# Altium schematic symbol library RXXXX.SchLib: 41 symbols
Pins are listed as number, name and electrical type; pins without a type are passive.

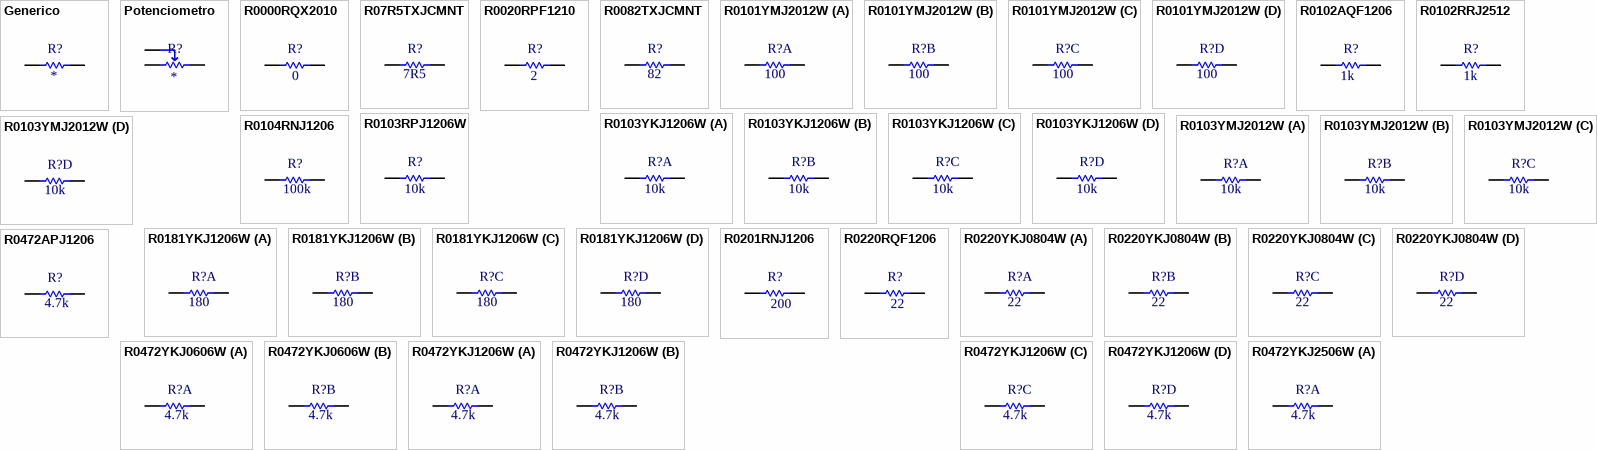
[diagram p0: symbols Generico to R0472YKJ2506W]

## Generico
designator R?
Frequency: NC; Manufacturer Part Number: *; Working Temperature: *; Temperature Coefficient: *; Mounting: *; Short Description: *; Power: *; Ratings: *; Type: NC; Alternate Part Number 1: *; Alternate Part Number 2: *; Manufacturer: *; Tolerance: *; Current: NC; Revision Date: 02/08/21; Package Reference: *; Voltage: *; Value: *
pins: 1, 2

## Potenciometro
designator R?
Frequency: NC; Manufacturer Part Number: *; Working Temperature: *; Temperature Coefficient: *; Mounting: *; Short Description: *; Power: *; Ratings: *; Type: NC; Alternate Part Number 1: *; Alternate Part Number 2: *; Manufacturer: *; Tolerance: *; Current: NC; Revision Date: 02/08/21; Package Reference: *; Voltage: *; Value: *
pins: 1, 2, 3

## R0000RQX2010
designator R?  value 0
0 Ohms Jumper 0.75W, 3/4W Chip Resistor 2010 (5025 Metric) Automotive AEC-Q200 Thick Film; Manufacturer Part Number: RMCF2010ZT0R00; Manufacturer: Stackpole Electronics Inc; Working Temperature: -55°C ~ 155°C; Short Description: RES 0 OHM JUMPER 3/4W 2010; Ratings: REACH, ROHS3, AEC-Q200; Frequency: NC; Temperature Coefficient: *; Mounting: SMT; Power: 3/4W; Type: NC; Alternate Part Number 1: *; Alternate Part Number 2: *; Tolerance: *; Current: NC; Revision Date: 02/08/21; Package Reference: 2010; Voltage: *
footprint R2010 (Footprint not found)
pins: 1, 2

## R07R5TXJCMNT
designator R?  value 7R5
7R5 Ohms 25W Metal Clad Chassis Mount Resistor HS25 type.; Manufacturer Part Number: UAL25-7R5F8; Manufacturer: TE Connectivity Passive Product; Working Temperature: -55°C ~ 200°C; Short Description: RES CHAS MNT 7.5 OHM 1% 25W; Frequency: NC; Temperature Coefficient: *; Mounting: Chassis Mount; Power: 25W; Ratings: -; Type: HS25 Metal Clad; Alternate Part Number 1: *; Alternate Part Number 2: *; Tolerance: *; Current: NC; Revision Date: 24/07/23; Package Reference: HS25 Metal Clad; Voltage: *
footprint HS25 (HS10)
pins: 1, 2

## R0020RPF1210
designator R?  value 2
2 Ohms ±1% 0.5W, 1/2W Chip Resistor 1210 (3225 Metric) Automotive AEC-Q200 Thick Film; Manufacturer Part Number: RMCF1210FT2R00; Manufacturer: Stackpole Electronics Inc; Working Temperature: -55°C ~ 155°C; Short Description: RES 2 OHM 1% 1/2W 1210; Frequency: NC; Temperature Coefficient: *; Mounting: SMD; Power: 0.5W; Ratings: AEC-Q200; Type: NC; Alternate Part Number 1: *; Alternate Part Number 2: *; Tolerance: ±1%; Current: NC; Revision Date: 02/08/21; Package Reference: 1210; Voltage: *
footprint R1210
pins: 1, 2

## R0082TXJCMNT
designator R?  value 82
82 Ohms 10W Metal Clad Chassis Mount Resistor HS10 type.; Manufacturer Part Number: THS1082RJ; Manufacturer: TE Connectivity Passive Product; Working Temperature: -55°C ~ 200°C; Short Description: RES CHAS MNT 82 OHM 5% 10W; Frequency: NC; Temperature Coefficient: *; Mounting: Chassis Mount; Power: 10W; Ratings: -; Type: HS10 Metal Clad; Alternate Part Number 1: *; Alternate Part Number 2: *; Tolerance: *; Current: NC; Revision Date: 03/05/22; Package Reference: HS10 Metal Clad; Voltage: *
footprint HS10
pins: 1, 2

## R0101YMJ2012W
designator R?  value 100
100 Ohm ±5% 125mW Power Per Element Isolated 4 Resistor Network/Array ±200ppm/°C 2012, Concave, Long Side Terminals; Manufacturer Part Number: 744C083101JP; Manufacturer: CTS Resistor Products; Working Temperature: -55°C ~ 125°C; Short Description: RES ARRAY 4 RES 100 OHM 2012; Power: 1/8W; Ratings: REACH, ROHS3; Frequency: NC; Temperature Coefficient: ±200ppm/°C; Mounting: SMT; Type: NC; Alternate Part Number 1: *; Alternate Part Number 2: *; Tolerance: ±5%; Current: NC; Revision Date: 02/08/21; Package Reference: Array; Voltage: *
footprint R2012A (Footprint not found)
part A pins: 1, 8
part B pins: 2, 7
part C pins: 3, 6
part D pins: 4, 5

## R0102AQF1206
designator R?  value 1k  (hidden comment: R0102AQF1206)
1 kOhms ±1% 0.75W, 3/4W Chip Resistor 1206 (3216 Metric) Automotive AEC-Q200, Pulse Withstanding Thick Film; Manufacturer Part Number: CRCW12061K00FKEAHP; Manufacturer: Vishay Dale; Working Temperature: -55°C ~ 155°C; Temperature Coefficient: ±100ppm/°C; Short Description: RES SMD 1K OHM 1% 3/4W 1206; Ratings: REACH, ROHS3; Frequency: NC; Tolerance: ±5%; Mounting: SMT; Power: 3/4W; Type: NC; Alternate Part Number 1: *; Alternate Part Number 2: *; Current: NC; Revision Date: 02/08/21; Package Reference: 1206; Voltage: *
footprint R1206 (Footprint not found)
pins: 1, 2

## R0102RRJ2512
designator R?  value 1k
1 kOhms ±5% 1W Chip Resistor 2512 (6432 Metric) Automotive AEC-Q200 Thick Film; Manufacturer Part Number: MCR100JZHJ102; Manufacturer: Rohm Semiconductor; Working Temperature: -55°C ~ 125°C; Temperature Coefficient: ±200ppm/°C; Short Description: RES SMD 1K OHM 5% 1W 2512; Ratings: REACH, ROHS3, AEC-Q200; Frequency: NC; Mounting: SMT; Power: 1W; Type: NC; Alternate Part Number 1: *; Alternate Part Number 2: *; Tolerance: ±5%; Current: NC; Revision Date: 02/08/21; Package Reference: 2512; Voltage: *
footprint R2512 (Footprint not found)
pins: 1, 2

## R0103RPJ1206W
designator R?  value 10k
10 kOhms ±5% 0.5W, 1/2W Chip Resistor 1206 (3216 Metric) High Voltage, Pulse Withstanding Thick Film; Manufacturer Part Number: CRS1206-JX-103ELF; Manufacturer: Bourns Inc.; Working Temperature: -55°C ~ 155°C; Temperature Coefficient: ±100ppm/°C; Short Description: RES SMD 10K OHM 5% 1/2W 1206; Ratings: REACH, ROHS3; Frequency: NC; Mounting: SMT; Power: 1/2W; Type: NC; Alternate Part Number 1: *; Alternate Part Number 2: *; Tolerance: ±5%; Current: NC; Revision Date: 02/08/21; Package Reference: 1206; Voltage: *
footprint R1206 (Footprint not found)
pins: 1, 2

## R0103YKJ1206W
designator R?  value 10k
10k Ohm ±5% 62.5mW Power Per Element Isolated 4 Resistor Network/Array ±200ppm/°C 1206 (3216 Metric), Convex, Long Side Terminals; Manufacturer Part Number: YC164-JR-0710KL; Manufacturer: Yageo; Working Temperature: -55°C ~ 155°C; Short Description: RES ARRAY 4 RES 10K OHM 1206; Power: 1/16W; Ratings: REACH, ROHS3; Frequency: NC; Temperature Coefficient: ±200ppm/°C; Mounting: SMT; Type: NC; Alternate Part Number 1: *; Alternate Part Number 2: *; Tolerance: ±5%; Current: NC; Revision Date: 02/08/21; Package Reference: Array; Voltage: *
footprint R1206A
part A pins: 1, 8
part B pins: 2, 7
part C pins: 3, 6
part D pins: 4, 5

## R0103YMJ2012W
designator R?  value 10k
10k Ohm ±5% 125mW Power Per Element Isolated 4 Resistor Network/Array ±200ppm/°C 2012, Concave, Long Side Terminals; Manufacturer Part Number: 744C083103JP; Manufacturer: CTS Resistor Products; Working Temperature: -55°C ~ 125°C; Short Description: RES ARRAY 4 RES 10K OHM 2012; Power: 1/8W; Ratings: REACH, ROHS3; Frequency: NC; Temperature Coefficient: ±200ppm/°C; Mounting: SMT; Type: NC; Alternate Part Number 1: *; Alternate Part Number 2: *; Tolerance: ±5%; Current: NC; Revision Date: 02/08/21; Package Reference: Array; Voltage: *
footprint R2012A (Footprint not found)
part A pins: 1, 8
part B pins: 2, 7
part C pins: 3, 6
part D pins: 4, 5

## R0104RNJ1206
designator R?  value 100k
100 kOhms ±5% 0.25W, 1/4W Chip Resistor 1206 (3216 Metric) Automotive AEC-Q200 Thick Film; Manufacturer Part Number: ERJ-8GEYJ104V; Manufacturer: Panasonic Electronic Components; Working Temperature: -55°C ~ 155°C; Temperature Coefficient: ±200ppm/°C; Short Description: RES SMD 100K OHM 5% 1/4W 1206; Ratings: REACH, ROHS3, AEC-Q200; Frequency: NC; Mounting: SMT; Power: 1/4W; Type: NC; Alternate Part Number 1: *; Alternate Part Number 2: *; Tolerance: ±5%; Current: NC; Revision Date: 02/08/21; Package Reference: 1206; Voltage: *
footprint R1206 (Footprint not found)
pins: 1, 2

## R0181YKJ1206W
designator R?  value 180
180 Ohm ±5% 62.5mW Power Per Element Isolated 4 Resistor Network/Array ±200ppm/°C 1206 (3216 Metric), Concave, Long Side Terminals; Manufacturer Part Number: 742C083181JP; Manufacturer: CTS Resistor Products; Working Temperature: -55°C ~ 125°C; Short Description: RES ARRAY 4 RES 180 OHM 1206; Power: 1/16W; Ratings: REACH, ROHS3; Frequency: NC; Temperature Coefficient: ±200ppm/°C; Mounting: SMT; Type: NC; Alternate Part Number 1: *; Alternate Part Number 2: *; Tolerance: ±5%; Current: NC; Revision Date: 02/08/21; Package Reference: Array; Voltage: *
footprint R1206A
part A pins: 1, 8
part B pins: 2, 7
part C pins: 3, 6
part D pins: 4, 5

## R0201RNJ1206
designator R?  value 200
200 Ohms ±5% 0.25W, 1/4W Chip Resistor 1206 (3216 Metric) Moisture Resistant Thick Film; Manufacturer Part Number: RC1206JR-07200RL; Manufacturer: YAGEO; Working Temperature: -55°C ~ 155°C; Temperature Coefficient: ±100ppm/°C; Short Description: RES 200 OHM 5% 1/4W 1206; Ratings: ROHS3; Frequency: NC; Mounting: SMD; Power: 0.25W,1/4W; Type: NC; Alternate Part Number 1: *; Alternate Part Number 2: *; Tolerance: 5%; Current: NC; Revision Date: 06/01/22; Package Reference: 1206; Voltage: *
footprint R1206
pins: 1, 2

## R0220RQF1206
designator R?  value 22
22 Ohms ±1% 0.75W, 3/4W Chip Resistor 1206 (3216 Metric) Automotive AEC-Q200, Pulse Withstanding Thick Film; Manufacturer Part Number: CRCW120622R0FKEAHP; Manufacturer: Vishay Dale; Working Temperature: -55°C ~ 155°C; Temperature Coefficient: ±100ppm/°C; Short Description: RES SMD 22 OHM 1% 3/4W 1206; Ratings: REACH, ROHS3, AEC-Q200; Frequency: NC; Mounting: SMT; Power: 3/4W; Type: NC; Alternate Part Number 1: *; Alternate Part Number 2: *; Tolerance: ±1%; Current: NC; Revision Date: 24/11/21; Package Reference: 1206; Voltage: NC
footprint R1206
pins: 1, 2

## R0220YKJ0804W
designator R?  value 22
22 Ohm ±5% 62.5mW Power Per Element Isolated 4 Resistor Network/Array ±200ppm/°C 0804, Convex, Long Side Terminals; Manufacturer Part Number: YC124-JR-0722RL; Manufacturer: Yageo; Working Temperature: -55°C ~ 155°C; Short Description: RES ARRAY 4 RES 22 OHM 0804; Power: 1/16W; Ratings: REACH, ROHS3; Frequency: NC; Temperature Coefficient: ±200ppm/°C; Mounting: SMT; Type: NC; Alternate Part Number 1: *; Alternate Part Number 2: *; Tolerance: ±5%; Current: NC; Revision Date: 02/08/21; Package Reference: Array; Voltage: *
footprint R0804A (Footprint not found)
part A pins: 1, 8
part B pins: 2, 7
part C pins: 3, 6
part D pins: 4, 5

## R0472APJ1206
designator R?  value 4.7k
4.7 kOhms ±5% 0.667W, 2/3W Chip Resistor 1206 (3216 Metric) Automotive AEC-Q200, Pulse Withstanding Thick Film; Manufacturer Part Number: ERJ-P08J472V; Manufacturer: Panasonic Electronic Components; Working Temperature: -55°C ~ 155°C; Temperature Coefficient: ±200ppm/°C; Short Description: RES SMD 4.7K OHM 5% 2/3W 1206; Ratings: REACH, ROHS3, AEC-Q200; Frequency: NC; Mounting: SMT; Power: 2/3W; Type: NC; Alternate Part Number 1: *; Alternate Part Number 2: *; Tolerance: ±5%; Current: NC; Revision Date: 02/08/21; Package Reference: 1206; Voltage: *
footprint R1206 (Footprint not found)
pins: 1, 2

## R0472YKJ0606W
designator R?  value 4.7k
4.7k Ohm ±5% 62.5mW Power Per Element Isolated 2 Resistor Network/Array ±200ppm/°C 0606, Concave; Manufacturer Part Number: 742C043472JP; Manufacturer: CTS Resistor Products; Working Temperature: -55°C ~ 125°C; Short Description: RES ARRAY 2 RES 4.7K OHM 0606; Power: 1/16W; Ratings: REACH, ROHS3; Frequency: NC; Temperature Coefficient: ±200ppm/°C; Mounting: SMT; Type: NC; Alternate Part Number 1: *; Alternate Part Number 2: *; Tolerance: ±5%; Current: NC; Revision Date: 02/08/21; Package Reference: Array; Voltage: *
footprint R0606A (Footprint not found)
part A pins: 1, 4
part B pins: 2, 3

## R0472YKJ1206W
designator R?  value 4.7k
4.7k Ohm ±5% 62.5mW Power Per Element Isolated 4 Resistor Network/Array ±200ppm/°C 1206 (3216 Metric), Convex, Long Side Terminals; Manufacturer Part Number: YC164-JR-074K7L; Manufacturer: Yageo; Working Temperature: -55°C ~ 155°C; Short Description: RES ARRAY 4 RES 4.7K OHM 1206; Power: 1/16W; Ratings: REACH, ROHS3; Frequency: NC; Temperature Coefficient: ±200ppm/°C; Mounting: SMT; Type: NC; Alternate Part Number 1: *; Alternate Part Number 2: *; Tolerance: ±5%; Current: NC; Revision Date: 02/08/21; Package Reference: Array; Voltage: *
footprint R1206A
part A pins: 1, 8
part B pins: 2, 7
part C pins: 3, 6
part D pins: 4, 5

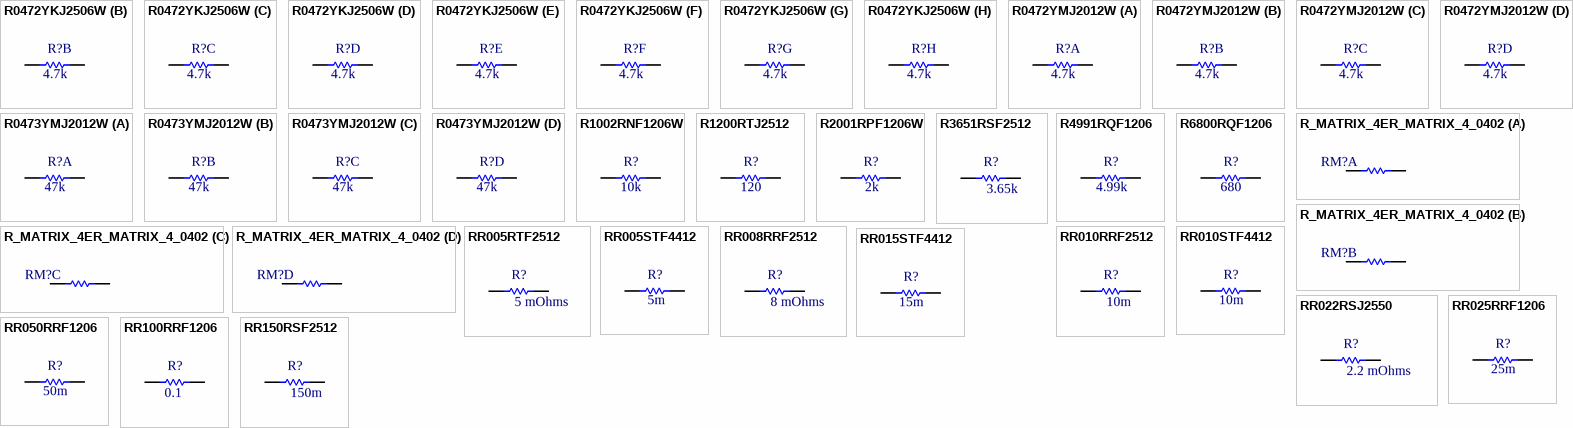
[diagram p1: symbols R0472YKJ2506W to RR150RSF2512]

## R0472YKJ2506W
designator R?  value 4.7k
4.7k Ohm ±5% 62.5mW Power Per Element Isolated 8 Resistor Network/Array ±200ppm/°C 2506, Concave, Long Side Terminals; Manufacturer Part Number: 742C163472JP; Manufacturer: CTS Resistor Products; Working Temperature: -55°C ~ 125°C; Short Description: RES ARRAY 8 RES 4.7K OHM 2506; Power: 1/16W; Ratings: REACH, ROHS3; Frequency: NC; Temperature Coefficient: ±200ppm/°C; Mounting: SMT; Type: NC; Alternate Part Number 1: *; Alternate Part Number 2: *; Tolerance: ±5%; Current: NC; Revision Date: 02/08/21; Package Reference: Array; Voltage: *
footprint R2506A (Footprint not found)
part A pins: 1, 16
part B pins: 2, 15
part C pins: 3, 14
part D pins: 4, 13
part E pins: 5, 12
part F pins: 6, 11
part G pins: 7, 10
part H pins: 8, 9

## R0472YMJ2012W
designator R?  value 4.7k
4.7k Ohm ±5% 125mW Power Per Element Isolated 4 Resistor Network/Array ±200ppm/°C 2012, Concave, Long Side Terminals; Manufacturer Part Number: 744C083472JP; Manufacturer: CTS Resistor Products; Working Temperature: -55°C ~ 125°C; Short Description: RES ARRAY 4 RES 4.7K OHM 2012; Power: 1/8W; Ratings: REACH, ROHS3; Frequency: NC; Temperature Coefficient: ±200ppm/°C; Mounting: SMT; Type: NC; Alternate Part Number 1: *; Alternate Part Number 2: *; Tolerance: ±5%; Current: NC; Revision Date: 02/08/21; Package Reference: Array; Voltage: *
footprint R2012A (Footprint not found)
part A pins: 1, 8
part B pins: 2, 7
part C pins: 3, 6
part D pins: 4, 5

## R0473YMJ2012W
designator R?  value 47k
47k Ohm ±5% 125mW Power Per Element Isolated 4 Resistor Network/Array ±200ppm/°C 2012, Concave, Long Side Terminals; Manufacturer Part Number: 744C083473JP; Manufacturer: CTS Resistor Products; Working Temperature: -55°C ~ 125°C; Short Description: RES ARRAY 4 RES 47K OHM 2012; Power: 1/8W; Ratings: REACH, ROHS3; Frequency: NC; Temperature Coefficient: ±200ppm/°C; Mounting: SMT; Type: NC; Alternate Part Number 1: *; Alternate Part Number 2: *; Tolerance: ±5%; Current: NC; Revision Date: 02/08/21; Package Reference: Array; Voltage: *
footprint R2012A (Footprint not found)
part A pins: 1, 8
part B pins: 2, 7
part C pins: 3, 6
part D pins: 4, 5

## R1002RNF1206W
designator R?  value 10k
10 kOhms ±1% 0.25W, 1/4W Chip Resistor 1206 (3216 Metric) Moisture Resistant Thick Film; Manufacturer Part Number: RC1206FR-0710KL; Manufacturer: Yageo; Working Temperature: -55°C ~ 155°C; Temperature Coefficient: ±100ppm/°C; Short Description: RES SMD 10K OHM 1% 1/4W 1206; Ratings: REACH, ROHS3; Frequency: NC; Mounting: SMT; Power: 1/4W; Type: NC; Alternate Part Number 1: *; Alternate Part Number 2: *; Tolerance: ±1%; Current: NC; Revision Date: 02/08/21; Package Reference: 1206; Voltage: *
footprint R1206 (Footprint not found)
pins: 1, 2

## R1200RTJ2512
designator R?  value 120
120 Ohms ±5% 3W Chip Resistor 2512 (6432 Metric) Automotive AEC-Q200 Thick Film; Manufacturer Part Number: 3522120RJT; Manufacturer: TE Connectivity Passive Product; Working Temperature: -55°C ~ 155°C; Temperature Coefficient: ±100ppm/°C; Short Description: RES SMD 120 OHM 5% 3W 2512; Ratings: REACH, ROHS3, AEC-Q200; Frequency: NC; Mounting: SMT; Power: 3W; Type: NC; Alternate Part Number 1: *; Alternate Part Number 2: *; Tolerance: ±5%; Current: NC; Revision Date: 02/08/21; Package Reference: 2512; Voltage: *
footprint R2512 (Footprint not found)
pins: 1, 2

## R2001RPF1206W
designator R?  value 2k
2 kOhms ±1% 0.5W, 1/2W Chip Resistor 1206 (3216 Metric) Anti-Sulfur, Moisture Resistant Thin Film; Manufacturer Part Number: RNCP1206FTD2K00; Manufacturer: Stackpole Electronics Inc; Working Temperature: -55°C ~ 155°C; Temperature Coefficient: ±100ppm/°C; Short Description: RES 2K OHM 1% 1/2W 1206; Ratings: REACH, ROHS3; Frequency: NC; Mounting: SMT; Power: 1/2W; Type: NC; Alternate Part Number 1: *; Alternate Part Number 2: *; Tolerance: ±1%; Current: NC; Revision Date: 02/08/21; Package Reference: 1206; Voltage: *
footprint R1206 (Footprint not found)
pins: 1, 2

## R3651RSF2512
designator R?  value 3.65k
3.65 kOhms ±1% 1W Chip Resistor 2512 (6432 Metric) Automotive AEC-Q200 Thick Film; Manufacturer Part Number: CRCW25123K65FKEG; Manufacturer: Vishay Dale; Working Temperature: -55°C ~ 155°C; Temperature Coefficient: ±100ppm/°C; Short Description: RES SMD 3.65K OHM 1% 1W 2512; Ratings: ROHS3, AEC-Q200; Frequency: NC; Mounting: SMT; Power: 1W; Type: NC; Alternate Part Number 1: *; Alternate Part Number 2: *; Tolerance: ±1%; Current: NC; Revision Date: 02/09/21; Package Reference: 2512; Voltage: NC
footprint R2512
pins: 1, 2

## R4991RQF1206
designator R?  value 4.99k
4.99 kOhms ±1% 0.75W, 3/4W Chip Resistor 1206 (3216 Metric) Automotive AEC-Q200, Pulse Withstanding Thick Film; Manufacturer Part Number: CRCW12064K99FKEAHP; Manufacturer: Vishay Dale; Working Temperature: -55°C ~ 155°C; Temperature Coefficient: ±100ppm/°C; Short Description: RES SMD 4.99K OHM 1% 3/4W 1206; Ratings: REACH, ROHS3, AEC-Q200; Frequency: NC; Mounting: SMT; Power: 3/4W; Type: NC; Alternate Part Number 1: *; Alternate Part Number 2: *; Tolerance: ±1%; Current: NC; Revision Date: 02/08/21; Package Reference: 1206; Voltage: *
footprint R1206 (Footprint not found)
pins: 1, 2

## R6800RQF1206
designator R?  value 680
680 Ohms ±1% 0.75W, 3/4W Chip Resistor 1206 (3216 Metric) Automotive AEC-Q200, Pulse Withstanding Thick Film; Manufacturer Part Number: CRCW1206680RFKEAHP; Manufacturer: Vishay Dale; Working Temperature: -55°C ~ 155°C; Temperature Coefficient: ±100ppm/°C; Short Description: RES SMD 680 OHM 1% 3/4W 1206; Ratings: REACH, ROHS3, AEC-Q200; Frequency: NC; Mounting: SMT; Power: 3/4W; Type: NC; Alternate Part Number 1: *; Alternate Part Number 2: *; Tolerance: ±1%; Current: NC; Revision Date: 02/08/21; Package Reference: 1206; Voltage: *
footprint R1206 (Footprint not found)
pins: 1, 2

## R_MATRIX_4ER_MATRIX_4_0402
designator RM?, comment RA0805_(4X0402)_22R  (value not drawn)
Manufacturer Part Number: YC124-JR-0722RL; Manufacturer: Yageo
footprint R0804A
part A pins: 1, 8 2
part B pins: 2, 7 2
part C pins: 3 2, 6 2
part D pins: 4 2, 5 2

## RR005RTF2512
designator R?  value 5 mOhms
8 mOhms ±1% 1W Chip Resistor 2512 (6432 Metric) Automotive AEC-Q200, Current Sense, Moisture Resistant Thick Film; Manufacturer Part Number: CRE2512-FZ-R005E-3; Manufacturer: Bourns; Working Temperature: -55°C ~ 170°C; Temperature Coefficient: ±100ppm/°C; Short Description: RES 0.005 OHM 1% 3W 2512; Power: 2W; Ratings: ROHS3, AEC-Q200; Frequency: NC; Mounting: SMT; Type: NC; Alternate Part Number 1: *; Alternate Part Number 2: *; Tolerance: ±1%; Current: NC; Revision Date: 02/09/21; Package Reference: 2512; Voltage: NC
footprint R2512
pins: 1, 2

## RR005STF4412
designator R?  value 5m
Current Sense Resistors - SMD 3W 0.005 ohm 1%; Manufacturer Part Number: OARS3R005FLF; Manufacturer: TT Electronics; Working Temperature: -40°C ~ 125°C; Temperature Coefficient: ±40ppm/°C; Ratings: REACH, ROHS3, AEC-Q200; Frequency: NC; Mounting: SMT; Short Description: *; Power: 3W; Type: NC; Alternate Part Number 1: *; Alternate Part Number 2: *; Tolerance: ±1%; Current: NC; Revision Date: 02/08/21; Package Reference: *; Voltage: *
footprint R4412 (Footprint not found)
pins: 1, 2

## RR008RRF2512
designator R?  value 8 mOhms  (hidden comment: RR008RRF2512)
8 mOhms ±1% 1W Chip Resistor 2512 (6432 Metric) Automotive AEC-Q200, Current Sense, Moisture Resistant Thick Film; Manufacturer Part Number: ERJ-M1WSF8M0U; Alternate Part Number 1: WSL25128L000FEA18; Manufacturer: Panasonic; Working Temperature: -55°C ~ 170°C; Temperature Coefficient: ±100ppm/°C; Short Description: RESISTOR .008 OHM 1W 1% 2512; Power: 2W; Ratings: ROHS3, AEC-Q200; Frequency: NC; Mounting: SMT; Type: NC; Alternate Part Number 2: *; Tolerance: ±1%; Current: NC; Revision Date: 02/09/21; Package Reference: 2512; Voltage: NC
footprint R2512
pins: 1, 2

## RR010RRF2512
designator R?  value 10m
10 mOhms ±1% 1W Chip Resistor 2512 (6432 Metric)  Current Sense, Power Metal Strip Resistors,; Manufacturer Part Number: WSL2512R0100FEA; Manufacturer: Vishay Dale; Working Temperature: -55°C ~ 155°C; Temperature Coefficient: ±100ppm/°C; Short Description: RES 0.01 OHM 1% 1W 2512; Ratings: ROHS3, AEC-Q200; Frequency: NC; Mounting: SMT; Power: 1W; Type: NC; Alternate Part Number 1: *; Alternate Part Number 2: *; Tolerance: ±1%; Current: NC; Revision Date: 09/05/23; Package Reference: 2512; Voltage: NC
footprint R2512
pins: 1, 2

## RR010STF4412
designator R?  value 10m
Current Sense Resistors - SMD 3W 0.010 ohm 1%; Manufacturer Part Number: OARS3R010FLF; Manufacturer: TT Electronics; Working Temperature: -40°C ~ 125°C; Temperature Coefficient: ±40ppm/°C; Ratings: REACH, ROHS3, AEC-Q200; Frequency: NC; Mounting: SMT; Short Description: *; Power: 3W; Type: NC; Alternate Part Number 1: *; Alternate Part Number 2: *; Tolerance: ±1%; Current: NC; Revision Date: 02/08/21; Package Reference: *; Voltage: *
footprint R4412 (Footprint not found)
pins: 1, 2

## RR015STF4412
designator R?  value 15m
Current Sense Resistors - SMD 3W 0.015 ohm 1%; Manufacturer Part Number: OARS3R015FLF; Manufacturer: TT Electronics; Working Temperature: -40°C ~ 125°C; Temperature Coefficient: ±40ppm/°C; Ratings: REACH, ROHS3, AEC-Q200; Frequency: NC; Mounting: SMT; Short Description: *; Power: 3W; Type: NC; Alternate Part Number 1: *; Alternate Part Number 2: *; Tolerance: ±1%; Current: NC; Revision Date: 02/08/21; Package Reference: *; Voltage: *
footprint R4412 (Footprint not found)
pins: 1, 2

## RR022RSJ2550
designator R?  value 2.2 mOhms  (hidden comment: RR022RSJ2550)
2.2 mOhms ±5% 2W Chip Resistor 2550 , Current Sense, Moisture Resistant Thick Film; Manufacturer Part Number: PML50HZPJV2L2; Alternate Part Number 1: WSL25128L000FEA18; Manufacturer: ROHM; Working Temperature: -55°C ~ 170°C; Temperature Coefficient: ±100ppm/°C; Short Description: RESISTOR .0022 OHM 2W 5% 2550; Ratings: ROHS3, AEC-Q200; Frequency: NC; Mounting: SMT; Power: 2W; Type: NC; Alternate Part Number 2: *; Tolerance: ±5%; Current: NC; Revision Date: 05/09/23; Package Reference: 2550; Voltage: NC
footprint R2550
pins: 1, 2

## RR025RRF1206
designator R?  value 25m
25 mOhms ±1% 1W Chip Resistor 1206 (3216 Metric) Automotive AEC-Q200, Current Sense Thick Film; Manufacturer Part Number: ERJ-8CWFR025V; Manufacturer: Panasonic Electronic Components; Working Temperature: -55°C ~ 125°C; Temperature Coefficient: ±75ppm/°C; Short Description: RES 0.025 OHM 1% 1W 1206; Ratings: REACH, ROHS3, AEC-Q200; Frequency: NC; Mounting: SMT; Power: 1W; Type: NC; Alternate Part Number 1: *; Alternate Part Number 2: *; Tolerance: ±1%; Current: NC; Revision Date: 21/09/21; Package Reference: 1206; Voltage: *
footprint R1206 (Footprint not found)
pins: 1, 2

## RR050RRF1206
designator R?  value 50m
50 ±1% 1W Chip Resistor 1206 (3216 Metric) Automotive AEC-Q200, Current Sense Thick Film; Manufacturer Part Number: ERJ-8BWFR050V; Manufacturer: Panasonic Electronic Components; Working Temperature: -55°C ~ 155°C; Temperature Coefficient: 0/ +100ppm/°C; Short Description: RES 0.05 OHM 1% 1W 1206; Ratings: REACH, ROHS3, AEC-Q200; Frequency: NC; Mounting: SMT; Power: 1W; Type: NC; Alternate Part Number 1: *; Alternate Part Number 2: *; Tolerance: ±1%; Current: NC; Revision Date: 21/09/21; Package Reference: 1206; Voltage: *
footprint R1206 (Footprint not found)
pins: 1, 2

## RR100RRF1206
designator R?  value 0.1  (hidden comment: RR100RRF1206)
100 mOhms ±1% 1W Chip Resistor 1206 (3216 Metric) Automotive AEC-Q200, Current Sense Thick Film; Manufacturer Part Number: ERJ-8BWFR100V; Manufacturer: Panasonic Electronic Components; Working Temperature: -55°C ~ 155°C; Temperature Coefficient: ±100ppm/°C; Short Description: RES 0.1 OHM 1% 1W 1206; Ratings: REACH, ROHS3; Frequency: NC; Mounting: SMT; Power: 1W; Type: NC; Alternate Part Number 1: *; Alternate Part Number 2: *; Tolerance: ±1%; Current: NC; Revision Date: 02/08/21; Package Reference: 1206; Voltage: *
footprint R1206 (Footprint not found)
pins: 1, 2

## RR150RSF2512
designator R?  value 150m
150 mOhms ±1% 2W Chip Resistor 2512 (6432 Metric) Automotive AEC-Q200, Current Sense, Moisture Resistant Thick Film; Manufacturer Part Number: RCWE2512R150FKEA; Manufacturer: Vishay Dale; Working Temperature: -55°C ~ 155°C; Temperature Coefficient: ±100ppm/°C; Short Description: RES 0.15 OHM 1% 2W 2512; Ratings: ROHS3, AEC-Q200; Frequency: NC; Mounting: SMT; Power: 2W; Type: NC; Alternate Part Number 1: *; Alternate Part Number 2: *; Tolerance: ±1%; Current: NC; Revision Date: 02/09/21; Package Reference: 2512; Voltage: NC
footprint R2512
pins: 1, 2